# Altium footprint library VCO Footprint.PcbLib: 1 footprints
Each footprint in its own frame and in the unit in brackets; x right, y up, seen from the top. Pads: shape width x height; smd on the part's side, far side on the other; paste and mask are expansions set on the pad; w line width, h text height; cw(c..) or ccw(c..) is an arc to the next point about the centre after c.
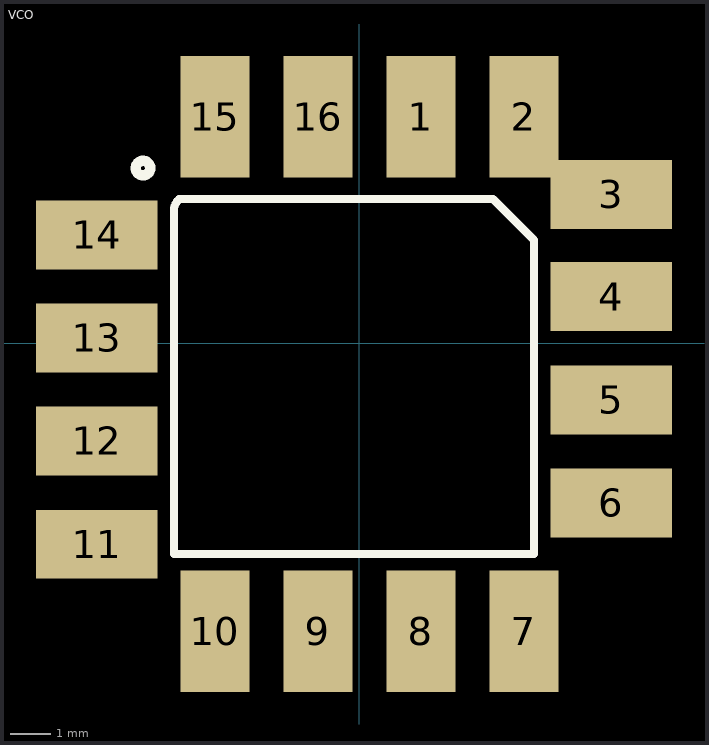
[diagram p0: the footprint, top view; thin cyan lines are the x and y axes]

## VCO [mm]
pads (16):
  rect 1.7x3 smd: 1(1.523,5.588) 2(4.063,5.588) 7(4.063,-7.112) 8(1.523,-7.112) 9(-1.017,-7.112) 10(-3.557,-7.112) 15(-3.557,5.588) 16(-1.017,5.588)
  rect 3x1.7 smd: 3(6.223,3.668) 4(6.223,1.148) 5(6.223,-1.402) 6(6.223,-3.942) 11(-6.477,-4.962) 12(-6.477,-2.412) 13(-6.477,0.128) 14(-6.477,2.668)
Top Overlay:
  circle w0.254: c-5.334,4.318 r0.18
  lines w0.2: -4.572,-5.207 4.318,-5.207 4.318,2.54 3.302,3.556 -4.445,3.556 ccw(c-4.138,3.249) -4.572,3.249 -4.572,-5.207
3D body: height 1, standoff 0, extent -6.477,-7.112 6.223,5.588